# EAGLE library part AT86RF233 (library biomimetic)
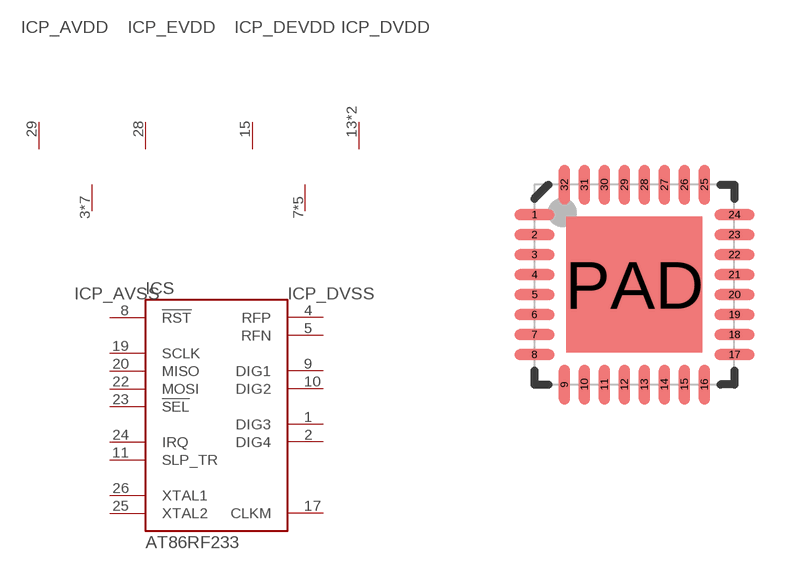
[diagram p1: symbol with the pads of VQFN-32QN2; footprint VQFN-32QN2]

Designator prefix IC; gates S=AT86RF233 P_AVDD=V+ P_DVDD=V+ P_EVDD=V+ P_DEVDD=V+ P_AVSS=V- P_DVSS=V-

## AT86RF233-ZU  [VQFN-32QN2]
1  S:DIG3
2  S:DIG4
3  P_AVSS:V-  pwr
4  S:RFP
5  S:RFN
6  P_AVSS:V-  pwr
7  P_DVSS:V-  pwr
8  S:!RST
9  S:DIG1
10  S:DIG2
11  S:SLP_TR
12  P_DVSS:V-  pwr
13  P_DVDD:V+  pwr
14  P_DVDD:V+  pwr
15  P_DEVDD:V+  pwr
16  P_DVSS:V-  pwr
17  S:CLKM
18  P_DVSS:V-  pwr
19  S:SCLK
20  S:MISO
21  P_DVSS:V-  pwr
22  S:MOSI
23  S:!SEL
24  S:IRQ
25  S:XTAL2
26  S:XTAL1
27  P_AVSS:V-  pwr
28  P_EVDD:V+  pwr
29  P_AVDD:V+  pwr
30  P_AVSS:V-  pwr
31  P_AVSS:V-  pwr
32  P_AVSS:V-  pwr
PAD  P_AVSS:V-  pwr

## Footprint VQFN-32QN2 (pad centres in mm)
smd 1 x 0.28: 1 -2.5,1.75; 2 -2.5,1.25; 3 -2.5,0.75; 4 -2.5,0.25; 5 -2.5,-0.25; 6 -2.5,-0.75; 7 -2.5,-1.25; 8 -2.5,-1.75; 17 2.5,-1.75; 18 2.5,-1.25; 19 2.5,-0.75; 20 2.5,-0.25; 21 2.5,0.25; 22 2.5,0.75; 23 2.5,1.25; 24 2.5,1.75
smd 0.28 x 1: 9 -1.75,-2.5; 10 -1.25,-2.5; 11 -0.75,-2.5; 12 -0.25,-2.5; 13 0.25,-2.5; 14 0.75,-2.5; 15 1.25,-2.5; 16 1.75,-2.5; 25 1.75,2.5; 26 1.25,2.5; 27 0.75,2.5; 28 0.25,2.5; 29 -0.25,2.5; 30 -0.75,2.5; 31 -1.25,2.5; 32 -1.75,2.5
smd 3.4 x 3.4: PAD 0,0